# Altium integrated library TI Power Management Current Limited Switch.IntLib: 83 symbols (part 2 of 4)
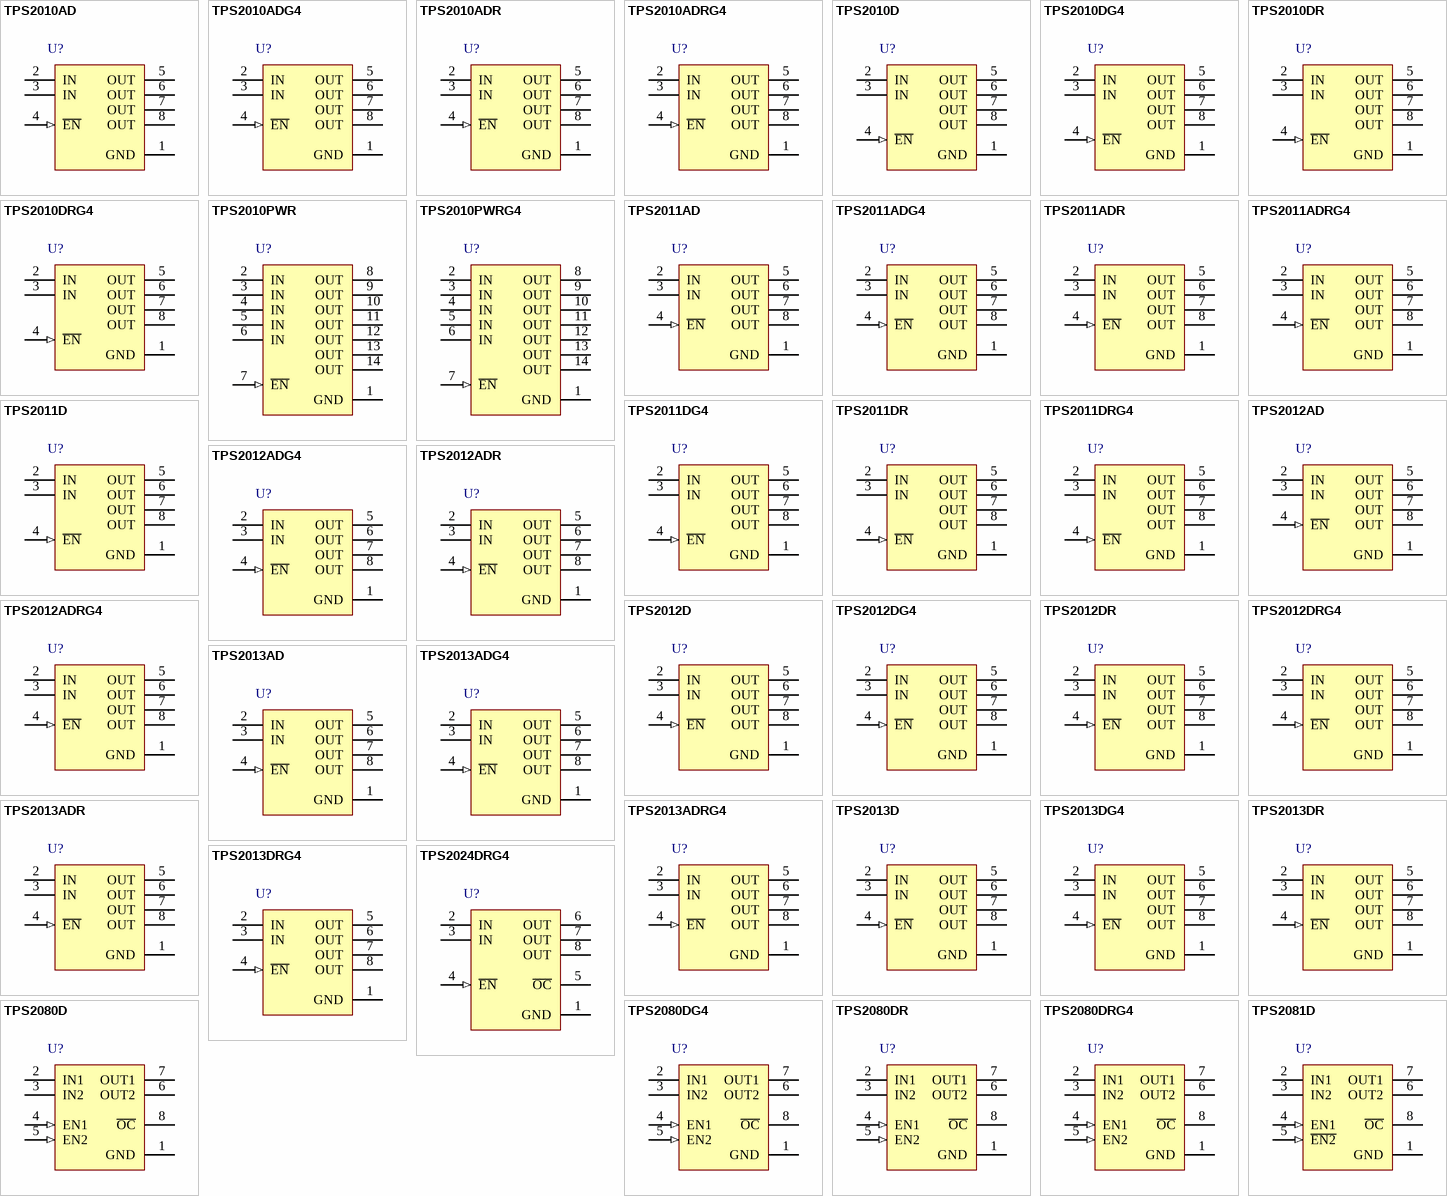
[diagram p3: symbols TPS2010AD to TPS2081D]

## TPS2013D
designator U?
2.6 A, 2.7 to 5.5 V Single High-Side MOSFET Switch IC, No Fault Reporting, 75 mOhms rDS(On), -40 to 125 degC, 8-pin SOIC (D), Green (RoHS & no Sb/Br); Manufacturer: Texas Instruments; PartNumber: TPS2013D; Adjustable Current Limit(Min)(A): 1.65; Enable/Shutdown: 1L; Iq(Typ)(uA): 73; No Fault Reporting: TRUE; Number of FETs: 1; rDS(on) per FET(Typ)(mOhms): 75; SubFamily: Current Limited Switch; Vin(Max)(V): 5.5; Vin(Min)(V): 2.7; DatasheetVersion: SLVS097A; PackageVersion: revM, Jun-2011; PackageReference: D8; PackageDescription: 8-Pin Plastic Small Outline Integrated Circuit, 4.9 x 3.9 mm, Pitch 1.27 mm Pitch; Supplier 1: Digi-Key; Supplier Part Number 1: 296-1353-5-ND; Supplier 2: Newark; Supplier Part Number 2: 52F2791; Supplier 3: Mouser; Supplier Part Number 3: 595-TPS2013D; Eco-Plan: Green (RoHS & no Sb/Br); Single: TRUE; Mounting Technology: Surface Mount; Code_JEDEC: MS-012AA; ComponentLink1Description: Datasheet; ComponentLink1URL: http://www.ti.com/general/docs/lit/getliterature.tsp?genericPartNumber=TPS2013&fileType=pdf
footprint D8_N (SOIC, 8-Leads, Body 4.9x3.9mm, Pitch 1.27mm, IPC Medium Density)
footprint D8_L (SOIC, 8-Leads, Body 4.9x3.9mm, Pitch 1.27mm, IPC High Density)
footprint D8_M (SOIC, 8-Leads, Body 4.9x3.9mm, Pitch 1.27mm, IPC Low Density)
pins: 1 GND (power) "Ground", 2 IN (power) "Input voltage", 3 IN (power) "Input voltage", 4 ~{EN} (in) "Enable input. Logic low turns power switch on", 5 OUT (power) "Power-switch output", 6 OUT (power) "Power-switch output", 7 OUT (power) "Power-switch output", 8 OUT (power) "Power-switch output"

## TPS2013DG4
designator U?
2.6 A, 2.7 to 5.5 V Single High-Side MOSFET Switch IC, No Fault Reporting, 75 mOhms rDS(On), -40 to 125 degC, 8-pin SOIC (D), Green (RoHS & no Sb/Br); Manufacturer: Texas Instruments; PartNumber: TPS2013DG4; Adjustable Current Limit(Min)(A): 1.65; Enable/Shutdown: 1L; Iq(Typ)(uA): 73; No Fault Reporting: TRUE; Number of FETs: 1; rDS(on) per FET(Typ)(mOhms): 75; SubFamily: Current Limited Switch; Vin(Max)(V): 5.5; Vin(Min)(V): 2.7; DatasheetVersion: SLVS097A; PackageVersion: revM, Jun-2011; PackageReference: D8; PackageDescription: 8-Pin Plastic Small Outline Integrated Circuit, 4.9 x 3.9 mm, Pitch 1.27 mm Pitch; Supplier 1: Digi-Key; Supplier Part Number 1: TPS2013DG4-ND; Supplier 2: Newark; Supplier Part Number 2: 61K1864; Supplier 3: Mouser; Supplier Part Number 3: 595-TPS2013DG4; Eco-Plan: Green (RoHS & no Sb/Br); Single: TRUE; Mounting Technology: Surface Mount; Code_JEDEC: MS-012AA; ComponentLink1Description: Datasheet; ComponentLink1URL: http://www.ti.com/general/docs/lit/getliterature.tsp?genericPartNumber=TPS2013&fileType=pdf
footprint D8_N (SOIC, 8-Leads, Body 4.9x3.9mm, Pitch 1.27mm, IPC Medium Density)
footprint D8_L (SOIC, 8-Leads, Body 4.9x3.9mm, Pitch 1.27mm, IPC High Density)
footprint D8_M (SOIC, 8-Leads, Body 4.9x3.9mm, Pitch 1.27mm, IPC Low Density)
pins: 1 GND (power) "Ground", 2 IN (power) "Input voltage", 3 IN (power) "Input voltage", 4 ~{EN} (in) "Enable input. Logic low turns power switch on", 5 OUT (power) "Power-switch output", 6 OUT (power) "Power-switch output", 7 OUT (power) "Power-switch output", 8 OUT (power) "Power-switch output"

## TPS2013DR
designator U?
2.6 A, 2.7 to 5.5 V Single High-Side MOSFET Switch IC, No Fault Reporting, 75 mOhms rDS(On), 8-pin SOIC (D), Green (RoHS & no Sb/Br); Manufacturer: Texas Instruments; PartNumber: TPS2013DR; Adjustable Current Limit(Min)(A): 1.65; Enable/Shutdown: 1L; Iq(Typ)(uA): 73; No Fault Reporting: TRUE; Number of FETs: 1; rDS(on) per FET(Typ)(mOhms): 75; SubFamily: Current Limited Switch; Vin(Max)(V): 5.5; Vin(Min)(V): 2.7; DatasheetVersion: SLVS097A; PackageVersion: revM, Jun-2011; PackageReference: D8; PackageDescription: 8-Pin Plastic Small Outline Integrated Circuit, 4.9 x 3.9 mm, Pitch 1.27 mm Pitch; Supplier 1: Digi-Key; Supplier Part Number 1: 296-1353-2-ND; Supplier 2: Digi-Key; Supplier Part Number 2: 296-1353-1-ND; Supplier 3: Digi-Key; Supplier Part Number 3: 296-1353-6-ND; Supplier 4: Newark; Supplier Part Number 4: 35C2208; Supplier 5: Mouser; Supplier Part Number 5: 595-TPS2013DR; Eco-Plan: Green (RoHS & no Sb/Br); Single: TRUE; Mounting Technology: Surface Mount; Code_JEDEC: MS-012AA; ComponentLink1Description: Datasheet; ComponentLink1URL: http://www.ti.com/general/docs/lit/getliterature.tsp?genericPartNumber=TPS2013&fileType=pdf
footprint D8_N (SOIC, 8-Leads, Body 4.9x3.9mm, Pitch 1.27mm, IPC Medium Density)
footprint D8_L (SOIC, 8-Leads, Body 4.9x3.9mm, Pitch 1.27mm, IPC High Density)
footprint D8_M (SOIC, 8-Leads, Body 4.9x3.9mm, Pitch 1.27mm, IPC Low Density)
pins: 1 GND (power) "Ground", 2 IN (power) "Input voltage", 3 IN (power) "Input voltage", 4 ~{EN} (in) "Enable input. Logic low turns power switch on", 5 OUT (power) "Power-switch output", 6 OUT (power) "Power-switch output", 7 OUT (power) "Power-switch output", 8 OUT (power) "Power-switch output"

## TPS2013DRG4
designator U?
2.6 A, 2.7 to 5.5 V Single High-Side MOSFET Switch IC, No Fault Reporting, 75 mOhms rDS(On), 8-pin SOIC (D), Green (RoHS & no Sb/Br); Manufacturer: Texas Instruments; PartNumber: TPS2013DRG4; Adjustable Current Limit(Min)(A): 1.65; Enable/Shutdown: 1L; Iq(Typ)(uA): 73; No Fault Reporting: TRUE; Number of FETs: 1; rDS(on) per FET(Typ)(mOhms): 75; SubFamily: Current Limited Switch; Vin(Max)(V): 5.5; Vin(Min)(V): 2.7; DatasheetVersion: SLVS097A; PackageVersion: revM, Jun-2011; PackageReference: D8; PackageDescription: 8-Pin Plastic Small Outline Integrated Circuit, 4.9 x 3.9 mm, Pitch 1.27 mm Pitch; Supplier 1: Digi-Key; Supplier Part Number 1: TPS2013DRG4-ND; Supplier 2: Newark; Supplier Part Number 2: 33K7507; Supplier 3: Mouser; Supplier Part Number 3: 595-TPS2013DRG4; Eco-Plan: Green (RoHS & no Sb/Br); Single: TRUE; Mounting Technology: Surface Mount; Code_JEDEC: MS-012AA; ComponentLink1Description: Datasheet; ComponentLink1URL: http://www.ti.com/general/docs/lit/getliterature.tsp?genericPartNumber=TPS2013&fileType=pdf
footprint D8_N (SOIC, 8-Leads, Body 4.9x3.9mm, Pitch 1.27mm, IPC Medium Density)
footprint D8_L (SOIC, 8-Leads, Body 4.9x3.9mm, Pitch 1.27mm, IPC High Density)
footprint D8_M (SOIC, 8-Leads, Body 4.9x3.9mm, Pitch 1.27mm, IPC Low Density)
pins: 1 GND (power) "Ground", 2 IN (power) "Input voltage", 3 IN (power) "Input voltage", 4 ~{EN} (in) "Enable input. Logic low turns power switch on", 5 OUT (power) "Power-switch output", 6 OUT (power) "Power-switch output", 7 OUT (power) "Power-switch output", 8 OUT (power) "Power-switch output"

## TPS2024DRG4
designator U?
2.2 A, 2.7 to 5.5 V Single Power Distribution Switch IC Hi-Side MOSFET, Fault Report, 33 mOhms rDS(On), -40 to 85 degC, 8-pin SOIC (D), Green (RoHS & no Sb/Br); Manufacturer: Texas Instruments; PartNumber: TPS2024DRG4; rDS(on) per FET(Typ)(mOhms): 33; SubFamily: Current Limited Switch; Vin(Max)(V): 5.5; Vin(Min)(V): 2.7; DatasheetVersion: SLVS175C; PackageVersion: revM, Jun-2011; PackageReference: D8; PackageDescription: 8-Pin Plastic Small Outline Integrated Circuit, 4.9 x 3.9 mm, Pitch 1.27 mm Pitch; Supplier 1: Digi-Key; Supplier Part Number 1: TPS2024DRG4-ND; Supplier 2: Newark; Supplier Part Number 2: 24K5807; Supplier 3: Mouser; Supplier Part Number 3: 595-TPS2024DRG4; Eco-Plan: Green (RoHS & no Sb/Br); Mounting Technology: Surface Mount; Code_JEDEC: MS-012AA; ComponentLink1Description: Datasheet; ComponentLink1URL: http://www.ti.com/general/docs/lit/getliterature.tsp?genericPartNumber=TPS2024&fileType=pdf
footprint D8_N (SOIC, 8-Leads, Body 4.9x3.9mm, Pitch 1.27mm, IPC Medium Density)
footprint D8_L (SOIC, 8-Leads, Body 4.9x3.9mm, Pitch 1.27mm, IPC High Density)
footprint D8_M (SOIC, 8-Leads, Body 4.9x3.9mm, Pitch 1.27mm, IPC Low Density)
pins: 1 GND (power) "Ground", 2 IN (power) "Input voltage", 3 IN (power) "Input voltage", 4 ~{EN} (in) "Enable input. Logic-low turns on power switch.", 5 ~{OC} (oc) "Overcurrent. Logic output, active-low", 6 OUT (power) "Power-switch output", 7 OUT (power) "Power-switch output", 8 OUT (power) "Power-switch output"

## TPS2080D
designator U?
0.7 A, 2.7 to 5.5 V Dual (2 Input / 2 Output) High-Side MOSFET Switch IC, Fault Reporting, 2 Act-Hi En, 80 mOhms rDS(on), 0 to 85 degC, 8-pin SOIC (D), Green (RoHS & no Sb/Br); Manufacturer: Texas Instruments; PartNumber: TPS2080D; Adjustable Current Limit(Min)(A): 0.7; Dual 2-Input, 2-Output": TRUE; Enable/Shutdown: 2H; Iq(Typ)(uA): 85; Number of FETs: 2; rDS(on) per FET(Typ)(mOhms): 80; SubFamily: Current Limited Switch; Vin(Max)(V): 5.5; Vin(Min)(V): 2.7; DatasheetVersion: SLVS202B; PackageVersion: revM, Jun-2011; PackageReference: D8; PackageDescription: 8-Pin Plastic Small Outline Integrated Circuit, 4.9 x 3.9 mm, Pitch 1.27 mm Pitch; Supplier 1: Digi-Key; Supplier Part Number 1: 296-3431-5-ND; Supplier 2: Newark; Supplier Part Number 2: 77C0040; Supplier 3: Mouser; Supplier Part Number 3: 595-TPS2080D; Eco-Plan: Green (RoHS & no Sb/Br); Over Current Reporting: TRUE; Over Temp Reporting: TRUE; Mounting Technology: Surface Mount; Code_JEDEC: MS-012AA; ComponentLink1Description: Datasheet; ComponentLink1URL: http://www.ti.com/general/docs/lit/getliterature.tsp?genericPartNumber=TPS2080&fileType=pdf
footprint D8_N (SOIC, 8-Leads, Body 4.9x3.9mm, Pitch 1.27mm, IPC Medium Density)
footprint D8_L (SOIC, 8-Leads, Body 4.9x3.9mm, Pitch 1.27mm, IPC High Density)
footprint D8_M (SOIC, 8-Leads, Body 4.9x3.9mm, Pitch 1.27mm, IPC Low Density)
pins: 1 GND (power) "Ground", 2 IN1 (power) "N-Channel MOSFET Drain", 3 IN2 (power) "N-Channel MOSFET Drain", 4 EN1 (in) "Enable input. Active high turns on power switch.", 5 EN2 (in) "Enable input. Active high turns on power switch.", 6 OUT2 (power) "Power-switch output", 7 OUT1 (power) "Power-switch output", 8 ~{OC} (oc) "Overcurrent. Open drain output active low"

## TPS2080DG4
designator U?
0.7 A, 2.7 to 5.5 V Dual (2 Input / 2 Output) High-Side MOSFET Switch IC, Fault Reporting, 2 Act-Hi En, 80 mOhms rDS(on), 0 to 85 degC, 8-pin SOIC (D), Green (RoHS & no Sb/Br); Manufacturer: Texas Instruments; PartNumber: TPS2080DG4; Adjustable Current Limit(Min)(A): 0.7; Dual 2-Input, 2-Output": TRUE; Enable/Shutdown: 2H; Iq(Typ)(uA): 85; Number of FETs: 2; rDS(on) per FET(Typ)(mOhms): 80; SubFamily: Current Limited Switch; Vin(Max)(V): 5.5; Vin(Min)(V): 2.7; DatasheetVersion: SLVS202B; PackageVersion: revM, Jun-2011; PackageReference: D8; PackageDescription: 8-Pin Plastic Small Outline Integrated Circuit, 4.9 x 3.9 mm, Pitch 1.27 mm Pitch; Supplier 1: Digi-Key; Supplier Part Number 1: TPS2080DG4-ND; Supplier 2: Newark; Supplier Part Number 2: 73K9587; Supplier 3: Mouser; Supplier Part Number 3: 595-TPS2080DG4; Eco-Plan: Green (RoHS & no Sb/Br); Over Current Reporting: TRUE; Over Temp Reporting: TRUE; Mounting Technology: Surface Mount; Code_JEDEC: MS-012AA; ComponentLink1Description: Datasheet; ComponentLink1URL: http://www.ti.com/general/docs/lit/getliterature.tsp?genericPartNumber=TPS2080&fileType=pdf
footprint D8_N (SOIC, 8-Leads, Body 4.9x3.9mm, Pitch 1.27mm, IPC Medium Density)
footprint D8_L (SOIC, 8-Leads, Body 4.9x3.9mm, Pitch 1.27mm, IPC High Density)
footprint D8_M (SOIC, 8-Leads, Body 4.9x3.9mm, Pitch 1.27mm, IPC Low Density)
pins: 1 GND (power) "Ground", 2 IN1 (power) "N-Channel MOSFET Drain", 3 IN2 (power) "N-Channel MOSFET Drain", 4 EN1 (in) "Enable input. Active high turns on power switch.", 5 EN2 (in) "Enable input. Active high turns on power switch.", 6 OUT2 (power) "Power-switch output", 7 OUT1 (power) "Power-switch output", 8 ~{OC} (oc) "Overcurrent. Open drain output active low"

## TPS2080DR
designator U?
0.7 A, 2.7 to 5.5 V Dual (2 Input / 2 Output) High-Side MOSFET Switch IC, Fault Reporting, 2 Act-Hi En, 80 mOhms rDS(on), 0 to 85 degC, 8-pin SOIC (D), Green (RoHS & no Sb/Br); Manufacturer: Texas Instruments; PartNumber: TPS2080DR; Adjustable Current Limit(Min)(A): 0.7; Dual 2-Input, 2-Output": TRUE; Enable/Shutdown: 2H; Iq(Typ)(uA): 85; Number of FETs: 2; rDS(on) per FET(Typ)(mOhms): 80; SubFamily: Current Limited Switch; Vin(Max)(V): 5.5; Vin(Min)(V): 2.7; DatasheetVersion: SLVS202B; PackageVersion: revM, Jun-2011; PackageReference: D8; PackageDescription: 8-Pin Plastic Small Outline Integrated Circuit, 4.9 x 3.9 mm, Pitch 1.27 mm Pitch; Supplier 1: Digi-Key; Supplier Part Number 1: TPS2080DR-ND; Supplier 2: Newark; Supplier Part Number 2: 77C0041; Supplier 3: Mouser; Supplier Part Number 3: 595-TPS2080DR; Eco-Plan: Green (RoHS & no Sb/Br); Over Current Reporting: TRUE; Over Temp Reporting: TRUE; Mounting Technology: Surface Mount; Code_JEDEC: MS-012AA; ComponentLink1Description: Datasheet; ComponentLink1URL: http://www.ti.com/general/docs/lit/getliterature.tsp?genericPartNumber=TPS2080&fileType=pdf
footprint D8_N (SOIC, 8-Leads, Body 4.9x3.9mm, Pitch 1.27mm, IPC Medium Density)
footprint D8_L (SOIC, 8-Leads, Body 4.9x3.9mm, Pitch 1.27mm, IPC High Density)
footprint D8_M (SOIC, 8-Leads, Body 4.9x3.9mm, Pitch 1.27mm, IPC Low Density)
pins: 1 GND (power) "Ground", 2 IN1 (power) "N-Channel MOSFET Drain", 3 IN2 (power) "N-Channel MOSFET Drain", 4 EN1 (in) "Enable input. Active high turns on power switch.", 5 EN2 (in) "Enable input. Active high turns on power switch.", 6 OUT2 (power) "Power-switch output", 7 OUT1 (power) "Power-switch output", 8 ~{OC} (oc) "Overcurrent. Open drain output active low"

## TPS2080DRG4
designator U?
0.7 A, 2.7 to 5.5 V Dual (2 Input / 2 Output) High-Side MOSFET Switch IC, Fault Reporting, 2 Act-Hi En, 80 mOhms rDS(on), 0 to 85 degC, 8-pin SOIC (D), Green (RoHS & no Sb/Br); Manufacturer: Texas Instruments; PartNumber: TPS2080DRG4; Adjustable Current Limit(Min)(A): 0.7; Dual 2-Input, 2-Output": TRUE; Enable/Shutdown: 2H; Iq(Typ)(uA): 85; Number of FETs: 2; rDS(on) per FET(Typ)(mOhms): 80; SubFamily: Current Limited Switch; Vin(Max)(V): 5.5; Vin(Min)(V): 2.7; DatasheetVersion: SLVS202B; PackageVersion: revM, Jun-2011; PackageReference: D8; PackageDescription: 8-Pin Plastic Small Outline Integrated Circuit, 4.9 x 3.9 mm, Pitch 1.27 mm Pitch; Supplier 1: Digi-Key; Supplier Part Number 1: TPS2080DRG4-ND; Supplier 2: Newark; Supplier Part Number 2: 33K7547; Supplier 3: Mouser; Supplier Part Number 3: 595-TPS2080DRG4; Eco-Plan: Green (RoHS & no Sb/Br); Over Current Reporting: TRUE; Over Temp Reporting: TRUE; Mounting Technology: Surface Mount; Code_JEDEC: MS-012AA; ComponentLink1Description: Datasheet; ComponentLink1URL: http://www.ti.com/general/docs/lit/getliterature.tsp?genericPartNumber=TPS2080&fileType=pdf
footprint D8_N (SOIC, 8-Leads, Body 4.9x3.9mm, Pitch 1.27mm, IPC Medium Density)
footprint D8_L (SOIC, 8-Leads, Body 4.9x3.9mm, Pitch 1.27mm, IPC High Density)
footprint D8_M (SOIC, 8-Leads, Body 4.9x3.9mm, Pitch 1.27mm, IPC Low Density)
pins: 1 GND (power) "Ground", 2 IN1 (power) "N-Channel MOSFET Drain", 3 IN2 (power) "N-Channel MOSFET Drain", 4 EN1 (in) "Enable input. Active high turns on power switch.", 5 EN2 (in) "Enable input. Active high turns on power switch.", 6 OUT2 (power) "Power-switch output", 7 OUT1 (power) "Power-switch output", 8 ~{OC} (oc) "Overcurrent. Open drain output active low"

## TPS2081D
designator U?
0.7 A, 2.7 to 5.5 V Dual (2 In / 2 Out) High-Side MOSFET Switch IC, Fault Report, 1 Act-High, 1 Act-Low, 80 mOhms rDS(On), 0 to 85 degC, 8-pin SOIC (D), Green (RoHS & no Sb/Br); Manufacturer: Texas Instruments; PartNumber: TPS2081D; Adjustable Current Limit(Min)(A): 0.7; Dual 2-Input, 2-Output": TRUE; Enable/Shutdown: 1L, 1H; Iq(Typ)(uA): 85; Number of FETs: 2; rDS(on) per FET(Typ)(mOhms): 80; SubFamily: Current Limited Switch; Vin(Max)(V): 5.5; Vin(Min)(V): 2.7; DatasheetVersion: SLVS202B; PackageVersion: revM, Jun-2011; PackageReference: D8; PackageDescription: 8-Pin Plastic Small Outline Integrated Circuit, 4.9 x 3.9 mm, Pitch 1.27 mm Pitch; Supplier 1: Digi-Key; Supplier Part Number 1: 296-3432-5-ND; Supplier 2: Newark; Supplier Part Number 2: 77C0043; Supplier 3: Mouser; Supplier Part Number 3: 595-TPS2081D; Eco-Plan: Green (RoHS & no Sb/Br); Over Current Reporting: TRUE; Over Temp Reporting: TRUE; Mounting Technology: Surface Mount; Code_JEDEC: MS-012AA; ComponentLink1Description: Datasheet; ComponentLink1URL: http://www.ti.com/general/docs/lit/getliterature.tsp?genericPartNumber=TPS2081&fileType=pdf
footprint D8_N (SOIC, 8-Leads, Body 4.9x3.9mm, Pitch 1.27mm, IPC Medium Density)
footprint D8_L (SOIC, 8-Leads, Body 4.9x3.9mm, Pitch 1.27mm, IPC High Density)
footprint D8_M (SOIC, 8-Leads, Body 4.9x3.9mm, Pitch 1.27mm, IPC Low Density)
pins: 1 GND (power) "Ground", 2 IN1 (power) "N-Channel MOSFET Drain", 3 IN2 (power) "N-Channel MOSFET Drain", 4 EN1 (in) "Enable input. Active high turns on power switch.", 5 ~{EN2} (in) "Enable input. Active low turns on power switch.", 6 OUT2 (power) "Power-switch output", 7 OUT1 (power) "Power-switch output", 8 ~{OC} (oc) "Overcurrent. Open drain output active low"

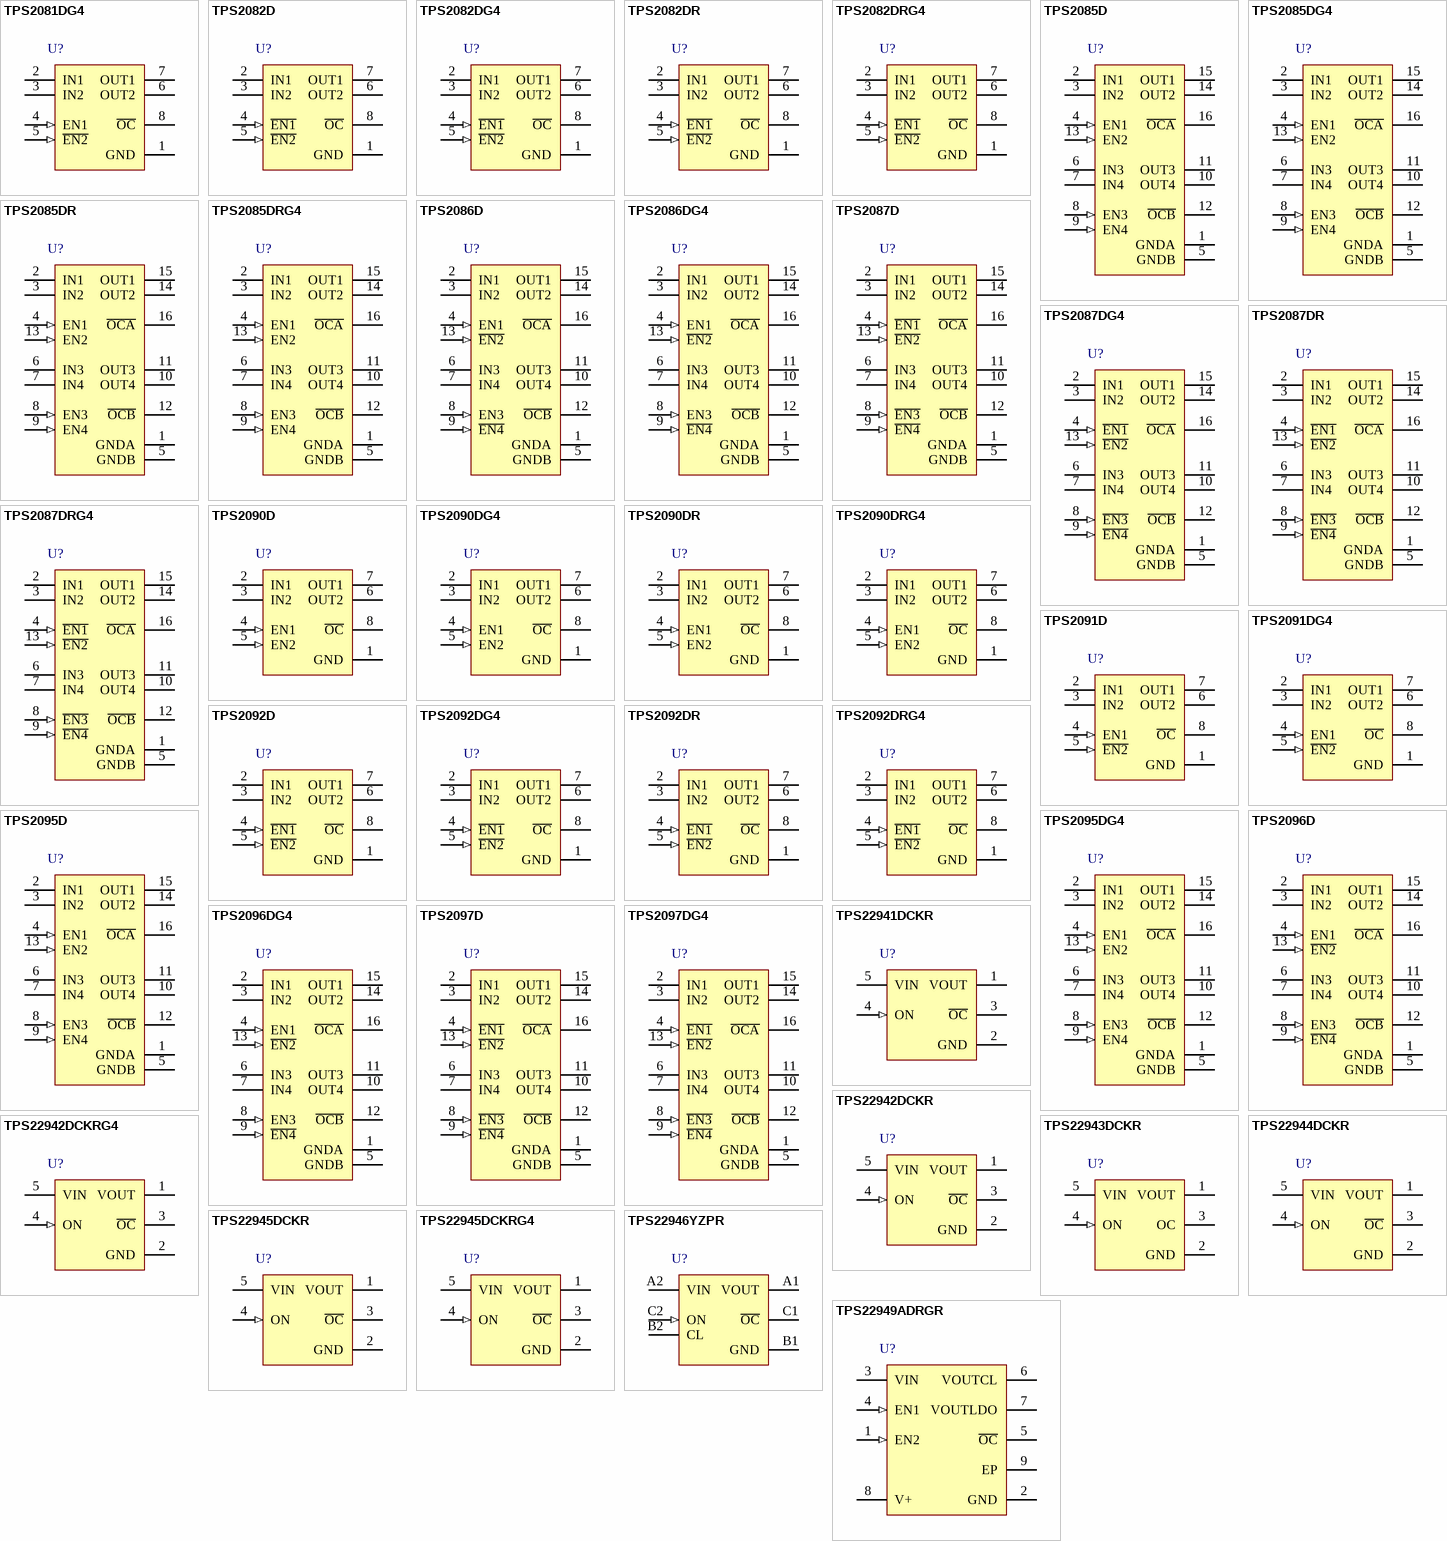
[diagram p1: symbols TPS2081DG4 to TPS22949ADRGR]

## TPS2081DG4
designator U?
0.7 A, 2.7 to 5.5 V Dual (2 In / 2 Out) High-Side MOSFET Switch IC, Fault Report, 1 Act-High, 1 Act-Low, 80 mOhms rDS(On), 0 to 85 degC, 8-pin SOIC (D), Green (RoHS & no Sb/Br); Manufacturer: Texas Instruments; PartNumber: TPS2081DG4; Adjustable Current Limit(Min)(A): 0.7; Dual 2-Input, 2-Output": TRUE; Enable/Shutdown: 1L, 1H; Iq(Typ)(uA): 85; Number of FETs: 2; rDS(on) per FET(Typ)(mOhms): 80; SubFamily: Current Limited Switch; Vin(Max)(V): 5.5; Vin(Min)(V): 2.7; DatasheetVersion: SLVS202B; PackageVersion: revM, Jun-2011; PackageReference: D8; PackageDescription: 8-Pin Plastic Small Outline Integrated Circuit, 4.9 x 3.9 mm, Pitch 1.27 mm Pitch; Supplier 1: Digi-Key; Supplier Part Number 1: TPS2081DG4-ND; Supplier 2: Newark; Supplier Part Number 2: 34M0142; Supplier 3: Mouser; Supplier Part Number 3: 595-TPS2081DG4; Eco-Plan: Green (RoHS & no Sb/Br); Over Current Reporting: TRUE; Over Temp Reporting: TRUE; Mounting Technology: Surface Mount; Code_JEDEC: MS-012AA; ComponentLink1Description: Datasheet; ComponentLink1URL: http://www.ti.com/general/docs/lit/getliterature.tsp?genericPartNumber=TPS2081&fileType=pdf
footprint D8_N (SOIC, 8-Leads, Body 4.9x3.9mm, Pitch 1.27mm, IPC Medium Density)
footprint D8_L (SOIC, 8-Leads, Body 4.9x3.9mm, Pitch 1.27mm, IPC High Density)
footprint D8_M (SOIC, 8-Leads, Body 4.9x3.9mm, Pitch 1.27mm, IPC Low Density)
pins: 1 GND (power) "Ground", 2 IN1 (power) "N-Channel MOSFET Drain", 3 IN2 (power) "N-Channel MOSFET Drain", 4 EN1 (in) "Enable input. Active high turns on power switch.", 5 ~{EN2} (in) "Enable input. Active low turns on power switch.", 6 OUT2 (power) "Power-switch output", 7 OUT1 (power) "Power-switch output", 8 ~{OC} (oc) "Overcurrent. Open drain output active low"

## TPS2082D
designator U?
0.7 A, 2.7 to 5.5 V Dual (2 Input / 2 Output) High-Side MOSFET Switch IC, Fault Reporting, 80 mOhms rDS(On), 0 to 85 degC, 8-pin SOIC (D), Green (RoHS & no Sb/Br); Manufacturer: Texas Instruments; PartNumber: TPS2082D; Adjustable Current Limit(Min)(A): 0.7; Dual 2-Input, 2-Output": TRUE; Enable/Shutdown: 2L; Iq(Typ)(uA): 85; Number of FETs: 2; rDS(on) per FET(Typ)(mOhms): 80; SubFamily: Current Limited Switch; Vin(Max)(V): 5.5; Vin(Min)(V): 2.7; DatasheetVersion: SLVS202B; PackageVersion: revM, Jun-2011; PackageReference: D8; PackageDescription: 8-Pin Plastic Small Outline Integrated Circuit, 4.9 x 3.9 mm, Pitch 1.27 mm Pitch; Supplier 1: Digi-Key; Supplier Part Number 1: 296-3433-5-ND; Supplier 2: Newark; Supplier Part Number 2: 77C0045; Supplier 3: Mouser; Supplier Part Number 3: 595-TPS2082D; Eco-Plan: Green (RoHS & no Sb/Br); Over Current Reporting: TRUE; Over Temp Reporting: TRUE; Mounting Technology: Surface Mount; Code_JEDEC: MS-012AA; ComponentLink1Description: Datasheet; ComponentLink1URL: http://www.ti.com/general/docs/lit/getliterature.tsp?genericPartNumber=TPS2082&fileType=pdf
footprint D8_N (SOIC, 8-Leads, Body 4.9x3.9mm, Pitch 1.27mm, IPC Medium Density)
footprint D8_L (SOIC, 8-Leads, Body 4.9x3.9mm, Pitch 1.27mm, IPC High Density)
footprint D8_M (SOIC, 8-Leads, Body 4.9x3.9mm, Pitch 1.27mm, IPC Low Density)
pins: 1 GND (power) "Ground", 2 IN1 (power) "N-Channel MOSFET Drain", 3 IN2 (power) "N-Channel MOSFET Drain", 4 ~{EN1} (in) "Enable input. Active low turns on power switch.", 5 ~{EN2} (in) "Enable input. Active low turns on power switch.", 6 OUT2 (power) "Power-switch output", 7 OUT1 (power) "Power-switch output", 8 ~{OC} (oc) "Overcurrent. Open drain output active low"

## TPS2082DG4
designator U?
0.7 A, 2.7 to 5.5 V Dual (2 Input / 2 Output) High-Side MOSFET Switch IC, Fault Reporting, 80 mOhms rDS(On), 0 to 85 degC, 8-pin SOIC (D), Green (RoHS & no Sb/Br); Manufacturer: Texas Instruments; PartNumber: TPS2082DG4; Adjustable Current Limit(Min)(A): 0.7; Dual 2-Input, 2-Output": TRUE; Enable/Shutdown: 2L; Iq(Typ)(uA): 85; Number of FETs: 2; rDS(on) per FET(Typ)(mOhms): 80; SubFamily: Current Limited Switch; Vin(Max)(V): 5.5; Vin(Min)(V): 2.7; DatasheetVersion: SLVS202B; PackageVersion: revM, Jun-2011; PackageReference: D8; PackageDescription: 8-Pin Plastic Small Outline Integrated Circuit, 4.9 x 3.9 mm, Pitch 1.27 mm Pitch; Supplier 1: Digi-Key; Supplier Part Number 1: TPS2082DG4-ND; Supplier 2: Newark; Supplier Part Number 2: 73K9588; Supplier 3: Mouser; Supplier Part Number 3: 595-TPS2082DG4; Eco-Plan: Green (RoHS & no Sb/Br); Over Current Reporting: TRUE; Over Temp Reporting: TRUE; Mounting Technology: Surface Mount; Code_JEDEC: MS-012AA; ComponentLink1Description: Datasheet; ComponentLink1URL: http://www.ti.com/general/docs/lit/getliterature.tsp?genericPartNumber=TPS2082&fileType=pdf
footprint D8_N (SOIC, 8-Leads, Body 4.9x3.9mm, Pitch 1.27mm, IPC Medium Density)
footprint D8_L (SOIC, 8-Leads, Body 4.9x3.9mm, Pitch 1.27mm, IPC High Density)
footprint D8_M (SOIC, 8-Leads, Body 4.9x3.9mm, Pitch 1.27mm, IPC Low Density)
pins: 1 GND (power) "Ground", 2 IN1 (power) "N-Channel MOSFET Drain", 3 IN2 (power) "N-Channel MOSFET Drain", 4 ~{EN1} (in) "Enable input. Active low turns on power switch.", 5 ~{EN2} (in) "Enable input. Active low turns on power switch.", 6 OUT2 (power) "Power-switch output", 7 OUT1 (power) "Power-switch output", 8 ~{OC} (oc) "Overcurrent. Open drain output active low"

## TPS2082DR
designator U?
0.7 A, 2.7 to 5.5 V Dual (2 Input / 2 Output) High-Side MOSFET Switch IC, Fault Reporting, 2 Act-Lo En, 80 mOhms rDS(On), 0 to 85 degC, 8-pin SOIC (D), Green (RoHS & no Sb/Br); Manufacturer: Texas Instruments; PartNumber: TPS2082DR; Adjustable Current Limit(Min)(A): 0.7; Dual 2-Input, 2-Output": TRUE; Enable/Shutdown: 2L; Iq(Typ)(uA): 85; Number of FETs: 2; rDS(on) per FET(Typ)(mOhms): 80; SubFamily: Current Limited Switch; Vin(Max)(V): 5.5; Vin(Min)(V): 2.7; DatasheetVersion: SLVS202B; PackageVersion: revM, Jun-2011; PackageReference: D8; PackageDescription: 8-Pin Plastic Small Outline Integrated Circuit, 4.9 x 3.9 mm, Pitch 1.27 mm Pitch; Supplier 1: Digi-Key; Supplier Part Number 1: TPS2082DR-ND; Supplier 2: Newark; Supplier Part Number 2: 77C0046; Supplier 3: Mouser; Supplier Part Number 3: 595-TPS2082DR; Eco-Plan: Green (RoHS & no Sb/Br); Over Current Reporting: TRUE; Over Temp Reporting: TRUE; Mounting Technology: Surface Mount; Code_JEDEC: MS-012AA; ComponentLink1Description: Datasheet; ComponentLink1URL: http://www.ti.com/general/docs/lit/getliterature.tsp?genericPartNumber=TPS2082&fileType=pdf
footprint D8_N (SOIC, 8-Leads, Body 4.9x3.9mm, Pitch 1.27mm, IPC Medium Density)
footprint D8_L (SOIC, 8-Leads, Body 4.9x3.9mm, Pitch 1.27mm, IPC High Density)
footprint D8_M (SOIC, 8-Leads, Body 4.9x3.9mm, Pitch 1.27mm, IPC Low Density)
pins: 1 GND (power) "Ground", 2 IN1 (power) "N-Channel MOSFET Drain", 3 IN2 (power) "N-Channel MOSFET Drain", 4 ~{EN1} (in) "Enable input. Active low turns on power switch.", 5 ~{EN2} (in) "Enable input. Active low turns on power switch.", 6 OUT2 (power) "Power-switch output", 7 OUT1 (power) "Power-switch output", 8 ~{OC} (oc) "Overcurrent. Open drain output active low"

## TPS2082DRG4
designator U?
0.7 A, 2.7 to 5.5 V Dual (2 Input / 2 Output) High-Side MOSFET Switch IC, Fault Reporting, 2 Act-Lo En, 80 mOhms rDS(On), 0 to 85 degC, 8-pin SOIC (D), Green (RoHS & no Sb/Br); Manufacturer: Texas Instruments; PartNumber: TPS2082DRG4; Adjustable Current Limit(Min)(A): 0.7; Dual 2-Input, 2-Output": TRUE; Enable/Shutdown: 2L; Iq(Typ)(uA): 85; Number of FETs: 2; rDS(on) per FET(Typ)(mOhms): 80; SubFamily: Current Limited Switch; Vin(Max)(V): 5.5; Vin(Min)(V): 2.7; DatasheetVersion: SLVS202B; PackageVersion: revM, Jun-2011; PackageReference: D8; PackageDescription: 8-Pin Plastic Small Outline Integrated Circuit, 4.9 x 3.9 mm, Pitch 1.27 mm Pitch; Supplier 1: Digi-Key; Supplier Part Number 1: TPS2082DRG4-ND; Supplier 2: Newark; Supplier Part Number 2: 33K7549; Supplier 3: Mouser; Supplier Part Number 3: 595-TPS2082DRG4; Eco-Plan: Green (RoHS & no Sb/Br); Over Current Reporting: TRUE; Over Temp Reporting: TRUE; Mounting Technology: Surface Mount; Code_JEDEC: MS-012AA; ComponentLink1Description: Datasheet; ComponentLink1URL: http://www.ti.com/general/docs/lit/getliterature.tsp?genericPartNumber=TPS2082&fileType=pdf
footprint D8_N (SOIC, 8-Leads, Body 4.9x3.9mm, Pitch 1.27mm, IPC Medium Density)
footprint D8_L (SOIC, 8-Leads, Body 4.9x3.9mm, Pitch 1.27mm, IPC High Density)
footprint D8_M (SOIC, 8-Leads, Body 4.9x3.9mm, Pitch 1.27mm, IPC Low Density)
pins: 1 GND (power) "Ground", 2 IN1 (power) "N-Channel MOSFET Drain", 3 IN2 (power) "N-Channel MOSFET Drain", 4 ~{EN1} (in) "Enable input. Active low turns on power switch.", 5 ~{EN2} (in) "Enable input. Active low turns on power switch.", 6 OUT2 (power) "Power-switch output", 7 OUT1 (power) "Power-switch output", 8 ~{OC} (oc) "Overcurrent. Open drain output active low"

## TPS2085D
designator U?
0.7 A, 2.7 to 5.5 V Quad (4 Input / 4 Output) High-Side MOSFET Switch IC, Fault Reporting, 4 Act-Hi En, 80 mOhms rDS(On), 0 to 85 degC, 16-pin SOIC (D), Green (RoHS & no Sb/Br); Manufacturer: Texas Instruments; PartNumber: TPS2085D; Adjustable Current Limit(Min)(A): 0.7; Enable/Shutdown: 4H; Iq(Typ)(uA): 85; Number of FETs: 4; Over Current Reporting: TRUE; rDS(on) per FET(Typ)(mOhms): 80; SubFamily: Current Limited Switch; Vin(Max)(V): 5.5; Vin(Min)(V): 2.7; DatasheetVersion: SLVS202B; PackageVersion: revM, Jun-2011; PackageReference: D16; PackageDescription: 16-Pin Plastic Small Outline Integrated Circuit, 9.9 x 3.9 mm, Pitch 1.27 mm Pitch; Supplier 1: Digi-Key; Supplier Part Number 1: 296-3434-5-ND; Supplier 2: Newark; Supplier Part Number 2: 77C0047; Supplier 3: Mouser; Supplier Part Number 3: 595-TPS2085D; Eco-Plan: Green (RoHS & no Sb/Br); Over Temp Reporting: TRUE; Quad 4-Input, 4-Output: TRUE; Mounting Technology: Surface Mount; Code_JEDEC: MS-012AC; ComponentLink1Description: Datasheet; ComponentLink1URL: http://www.ti.com/general/docs/lit/getliterature.tsp?genericPartNumber=TPS2085&fileType=pdf
footprint D16_N (SOIC, 16-Leads, Body 9.9x3.9mm, Pitch 1.27mm, IPC Medium Density)
footprint D16_L (SOIC, 16-Leads, Body 9.9x3.9mm, Pitch 1.27mm, IPC High Density)
footprint D16_M (SOIC, 16-Leads, Body 9.9x3.9mm, Pitch 1.27mm, IPC Low Density)
pins: 1 GNDA (power) "Ground for IN1 and IN2 switch and circuitry", 2 IN1 (power) "N-channel MOSFET drain", 3 IN2 (power) "N-channel MOSFET drain", 4 EN1 (in) "Enable input. Active high turns on power switch.", 5 GNDB (power) "Ground for IN3 and IN4 switch and circuitry", 6 IN3 (power) "N-channel MOSFET drain", 7 IN4 (power) "N-channel MOSFET drain", 8 EN3 (in) "Enable input. Active high turns on power switch.", 9 EN4 (in) "Enable input. Active high turns on power switch.", 10 OUT4 (power) "Power-switch output", 11 OUT3 (power) "Power-switch output", 12 ~{OCB} (oc) "Overcurrent indicator for switch 3 and switch 4. Active low open drain output", 13 EN2 (in) "Enable input. Active high turns on power switch.", 14 OUT2 (power) "Power-switch output", 15 OUT1 (power) "Power-switch output", 16 ~{OCA} (oc) "Overcurrent indicator for switch 1 and switch 2. Active-low open drain output."

## TPS2085DG4
designator U?
0.7 A, 2.7 to 5.5 V Quad (4 Input / 4 Output) High-Side MOSFET Switch IC, Fault Reporting, 4 Act-Hi En, 80 mOhms rDS(On), 0 to 85 degC, 16-pin SOIC (D), Green (RoHS & no Sb/Br); Manufacturer: Texas Instruments; PartNumber: TPS2085DG4; Adjustable Current Limit(Min)(A): 0.7; Enable/Shutdown: 4H; Iq(Typ)(uA): 85; Number of FETs: 4; Over Current Reporting: TRUE; rDS(on) per FET(Typ)(mOhms): 80; SubFamily: Current Limited Switch; Vin(Max)(V): 5.5; Vin(Min)(V): 2.7; DatasheetVersion: SLVS202B; PackageVersion: revM, Jun-2011; PackageReference: D16; PackageDescription: 16-Pin Plastic Small Outline Integrated Circuit, 9.9 x 3.9 mm, Pitch 1.27 mm Pitch; Supplier 1: Digi-Key; Supplier Part Number 1: TPS2085DG4-ND; Supplier 2: Newark; Supplier Part Number 2: 70K5699; Supplier 3: Mouser; Supplier Part Number 3: 595-TPS2085DG4; Eco-Plan: Green (RoHS & no Sb/Br); Over Temp Reporting: TRUE; Quad 4-Input, 4-Output: TRUE; Mounting Technology: Surface Mount; Code_JEDEC: MS-012AC; ComponentLink1Description: Datasheet; ComponentLink1URL: http://www.ti.com/general/docs/lit/getliterature.tsp?genericPartNumber=TPS2085&fileType=pdf
footprint D16_N (SOIC, 16-Leads, Body 9.9x3.9mm, Pitch 1.27mm, IPC Medium Density)
footprint D16_L (SOIC, 16-Leads, Body 9.9x3.9mm, Pitch 1.27mm, IPC High Density)
footprint D16_M (SOIC, 16-Leads, Body 9.9x3.9mm, Pitch 1.27mm, IPC Low Density)
pins: 1 GNDA (power) "Ground for IN1 and IN2 switch and circuitry", 2 IN1 (power) "N-channel MOSFET drain", 3 IN2 (power) "N-channel MOSFET drain", 4 EN1 (in) "Enable input. Active high turns on power switch.", 5 GNDB (power) "Ground for IN3 and IN4 switch and circuitry", 6 IN3 (power) "N-channel MOSFET drain", 7 IN4 (power) "N-channel MOSFET drain", 8 EN3 (in) "Enable input. Active high turns on power switch.", 9 EN4 (in) "Enable input. Active high turns on power switch.", 10 OUT4 (power) "Power-switch output", 11 OUT3 (power) "Power-switch output", 12 ~{OCB} (oc) "Overcurrent indicator for switch 3 and switch 4. Active low open drain output", 13 EN2 (in) "Enable input. Active high turns on power switch.", 14 OUT2 (power) "Power-switch output", 15 OUT1 (power) "Power-switch output", 16 ~{OCA} (oc) "Overcurrent indicator for switch 1 and switch 2. Active-low open drain output."

## TPS2085DR
designator U?
0.7 A, 2.7 to 5.5 V Quad (4 Input / 4 Output) High-Side MOSFET Switch IC, Fault Reporting, 4 Act-Hi En, 80 mOhms rDS(On), 0 to 85 degC, 16-pin SOIC (D), Green (RoHS & no Sb/Br); Manufacturer: Texas Instruments; PartNumber: TPS2085DR; Adjustable Current Limit(Min)(A): 0.7; Enable/Shutdown: 4H; Iq(Typ)(uA): 85; Number of FETs: 4; Over Current Reporting: TRUE; rDS(on) per FET(Typ)(mOhms): 80; SubFamily: Current Limited Switch; Vin(Max)(V): 5.5; Vin(Min)(V): 2.7; DatasheetVersion: SLVS202B; PackageVersion: revM, Jun-2011; PackageReference: D16; PackageDescription: 16-Pin Plastic Small Outline Integrated Circuit, 9.9 x 3.9 mm, Pitch 1.27 mm Pitch; Supplier 1: Digi-Key; Supplier Part Number 1: TPS2085DR-ND; Supplier 2: Newark; Supplier Part Number 2: 77C0048; Supplier 3: Mouser; Supplier Part Number 3: 595-TPS2085DR; Eco-Plan: Green (RoHS & no Sb/Br); Over Temp Reporting: TRUE; Quad 4-Input, 4-Output: TRUE; Mounting Technology: Surface Mount; Code_JEDEC: MS-012AC; ComponentLink1Description: Datasheet; ComponentLink1URL: http://www.ti.com/general/docs/lit/getliterature.tsp?genericPartNumber=TPS2085&fileType=pdf
footprint D16_N (SOIC, 16-Leads, Body 9.9x3.9mm, Pitch 1.27mm, IPC Medium Density)
footprint D16_L (SOIC, 16-Leads, Body 9.9x3.9mm, Pitch 1.27mm, IPC High Density)
footprint D16_M (SOIC, 16-Leads, Body 9.9x3.9mm, Pitch 1.27mm, IPC Low Density)
pins: 1 GNDA (power) "Ground for IN1 and IN2 switch and circuitry", 2 IN1 (power) "N-channel MOSFET drain", 3 IN2 (power) "N-channel MOSFET drain", 4 EN1 (in) "Enable input. Active high turns on power switch.", 5 GNDB (power) "Ground for IN3 and IN4 switch and circuitry", 6 IN3 (power) "N-channel MOSFET drain", 7 IN4 (power) "N-channel MOSFET drain", 8 EN3 (in) "Enable input. Active high turns on power switch.", 9 EN4 (in) "Enable input. Active high turns on power switch.", 10 OUT4 (power) "Power-switch output", 11 OUT3 (power) "Power-switch output", 12 ~{OCB} (oc) "Overcurrent indicator for switch 3 and switch 4. Active low open drain output", 13 EN2 (in) "Enable input. Active high turns on power switch.", 14 OUT2 (power) "Power-switch output", 15 OUT1 (power) "Power-switch output", 16 ~{OCA} (oc) "Overcurrent indicator for switch 1 and switch 2. Active-low open drain output."

## TPS2085DRG4
designator U?
0.7 A, 2.7 to 5.5 V Quad (4 Input / 4 Output) High-Side MOSFET Switch IC, Fault Reporting, 4 Act-Hi En, 80 mOhms rDS(On), 0 to 85 degC, 16-pin SOIC (D), Green (RoHS & no Sb/Br); Manufacturer: Texas Instruments; PartNumber: TPS2085DRG4; Adjustable Current Limit(Min)(A): 0.7; Enable/Shutdown: 4H; Iq(Typ)(uA): 85; Number of FETs: 4; Over Current Reporting: TRUE; rDS(on) per FET(Typ)(mOhms): 80; SubFamily: Current Limited Switch; Vin(Max)(V): 5.5; Vin(Min)(V): 2.7; DatasheetVersion: SLVS202B; PackageVersion: revM, Jun-2011; PackageReference: D16; PackageDescription: 16-Pin Plastic Small Outline Integrated Circuit, 9.9 x 3.9 mm, Pitch 1.27 mm Pitch; Supplier 1: Digi-Key; Supplier Part Number 1: TPS2085DRG4-ND; Supplier 2: Newark; Supplier Part Number 2: 33K7550; Supplier 3: Mouser; Supplier Part Number 3: 595-TPS2085DRG4; Eco-Plan: Green (RoHS & no Sb/Br); Over Temp Reporting: TRUE; Quad 4-Input, 4-Output: TRUE; Mounting Technology: Surface Mount; Code_JEDEC: MS-012AC; ComponentLink1Description: Datasheet; ComponentLink1URL: http://www.ti.com/general/docs/lit/getliterature.tsp?genericPartNumber=TPS2085&fileType=pdf
footprint D16_N (SOIC, 16-Leads, Body 9.9x3.9mm, Pitch 1.27mm, IPC Medium Density)
footprint D16_L (SOIC, 16-Leads, Body 9.9x3.9mm, Pitch 1.27mm, IPC High Density)
footprint D16_M (SOIC, 16-Leads, Body 9.9x3.9mm, Pitch 1.27mm, IPC Low Density)
pins: 1 GNDA (power) "Ground for IN1 and IN2 switch and circuitry", 2 IN1 (power) "N-channel MOSFET drain", 3 IN2 (power) "N-channel MOSFET drain", 4 EN1 (in) "Enable input. Active high turns on power switch.", 5 GNDB (power) "Ground for IN3 and IN4 switch and circuitry", 6 IN3 (power) "N-channel MOSFET drain", 7 IN4 (power) "N-channel MOSFET drain", 8 EN3 (in) "Enable input. Active high turns on power switch.", 9 EN4 (in) "Enable input. Active high turns on power switch.", 10 OUT4 (power) "Power-switch output", 11 OUT3 (power) "Power-switch output", 12 ~{OCB} (oc) "Overcurrent indicator for switch 3 and switch 4. Active low open drain output", 13 EN2 (in) "Enable input. Active high turns on power switch.", 14 OUT2 (power) "Power-switch output", 15 OUT1 (power) "Power-switch output", 16 ~{OCA} (oc) "Overcurrent indicator for switch 1 and switch 2. Active-low open drain output."

## TPS2086D
designator U?
0.7 A, 2.7 to 5.5 V Quad (4 In / 4 Out) High-Side MOSFET Switch IC, Fault Report, 2 Act-Hi, 2 Act-Lo En, 80 mOhms rDS(On), 0 to 85 degC, 16-pin SOIC (D), Green (RoHS & no Sb/Br); Manufacturer: Texas Instruments; PartNumber: TPS2086D; Adjustable Current Limit(Min)(A): 0.7; Enable/Shutdown: 2L, 2H; Iq(Typ)(uA): 85; Number of FETs: 4; Over Current Reporting: TRUE; rDS(on) per FET(Typ)(mOhms): 80; SubFamily: Current Limited Switch; Vin(Max)(V): 5.5; Vin(Min)(V): 2.7; DatasheetVersion: SLVS202B; PackageVersion: revM, Jun-2011; PackageReference: D16; PackageDescription: 16-Pin Plastic Small Outline Integrated Circuit, 9.9 x 3.9 mm, Pitch 1.27 mm Pitch; Supplier 1: Digi-Key; Supplier Part Number 1: 296-3435-5-ND; Supplier 2: Farnell; Supplier Part Number 2: 1755542; Supplier 3: Newark; Supplier Part Number 3: 34R9171; Supplier 4: Newark; Supplier Part Number 4: 77C0049; Supplier 5: Mouser; Supplier Part Number 5: 595-TPS2086D; Eco-Plan: Green (RoHS & no Sb/Br); Over Temp Reporting: TRUE; Quad 4-Input, 4-Output: TRUE; Mounting Technology: Surface Mount; Code_JEDEC: MS-012AC; ComponentLink1Description: Datasheet; ComponentLink1URL: http://www.ti.com/general/docs/lit/getliterature.tsp?genericPartNumber=TPS2086&fileType=pdf
footprint D16_N (SOIC, 16-Leads, Body 9.9x3.9mm, Pitch 1.27mm, IPC Medium Density)
footprint D16_L (SOIC, 16-Leads, Body 9.9x3.9mm, Pitch 1.27mm, IPC High Density)
footprint D16_M (SOIC, 16-Leads, Body 9.9x3.9mm, Pitch 1.27mm, IPC Low Density)
pins: 1 GNDA (power) "Ground for IN1 and IN2 switch and circuitry", 2 IN1 (power) "N-channel MOSFET drain", 3 IN2 (power) "N-channel MOSFET drain", 4 EN1 (in) "Enable input. Active high turns on power switch.", 5 GNDB (power) "Ground for IN3 and IN4 switch and circuitry", 6 IN3 (power) "N-channel MOSFET drain", 7 IN4 (power) "N-channel MOSFET drain", 8 EN3 (in) "Enable input. Active high turns on power switch.", 9 ~{EN4} (in) "Enable input. Active low turns on power switch.", 10 OUT4 (power) "Power-switch output", 11 OUT3 (power) "Power-switch output", 12 ~{OCB} (oc) "Overcurrent indicator for switch 3 and switch 4. Active low open drain output", 13 ~{EN2} (in) "Enable input. Active low turns on power switch.", 14 OUT2 (power) "Power-switch output", 15 OUT1 (power) "Power-switch output", 16 ~{OCA} (oc) "Overcurrent indicator for switch 1 and switch 2. Active-low open drain output."

## TPS2086DG4
designator U?
0.7 A, 2.7 to 5.5 V Quad (4 In / 4 Out) High-Side MOSFET Switch IC, Fault Report, 2 Act-Hi, 80 mOhms rDS(On), 0 to 85 degC, 16-pin SOIC (D), Green (RoHS & no Sb/Br); Manufacturer: Texas Instruments; PartNumber: TPS2086DG4; Adjustable Current Limit(Min)(A): 0.7; Enable/Shutdown: 2L, 2H; Iq(Typ)(uA): 85; Number of FETs: 4; Over Current Reporting: TRUE; rDS(on) per FET(Typ)(mOhms): 80; SubFamily: Current Limited Switch; Vin(Max)(V): 5.5; Vin(Min)(V): 2.7; DatasheetVersion: SLVS202B; PackageVersion: revM, Jun-2011; PackageReference: D16; PackageDescription: 16-Pin Plastic Small Outline Integrated Circuit, 9.9 x 3.9 mm, Pitch 1.27 mm Pitch; Supplier 1: Digi-Key; Supplier Part Number 1: TPS2086DG4-ND; Supplier 2: Newark; Supplier Part Number 2: 02M4302; Supplier 3: Mouser; Supplier Part Number 3: 595-TPS2086DG4; Eco-Plan: Green (RoHS & no Sb/Br); Over Temp Reporting: TRUE; Quad 4-Input, 4-Output: TRUE; Mounting Technology: Surface Mount; Code_JEDEC: MS-012AC; ComponentLink1Description: Datasheet; ComponentLink1URL: http://www.ti.com/general/docs/lit/getliterature.tsp?genericPartNumber=TPS2086&fileType=pdf
footprint D16_N (SOIC, 16-Leads, Body 9.9x3.9mm, Pitch 1.27mm, IPC Medium Density)
footprint D16_L (SOIC, 16-Leads, Body 9.9x3.9mm, Pitch 1.27mm, IPC High Density)
footprint D16_M (SOIC, 16-Leads, Body 9.9x3.9mm, Pitch 1.27mm, IPC Low Density)
pins: 1 GNDA (power) "Ground for IN1 and IN2 switch and circuitry", 2 IN1 (power) "N-channel MOSFET drain", 3 IN2 (power) "N-channel MOSFET drain", 4 EN1 (in) "Enable input. Active high turns on power switch.", 5 GNDB (power) "Ground for IN3 and IN4 switch and circuitry", 6 IN3 (power) "N-channel MOSFET drain", 7 IN4 (power) "N-channel MOSFET drain", 8 EN3 (in) "Enable input. Active high turns on power switch.", 9 ~{EN4} (in) "Enable input. Active low turns on power switch.", 10 OUT4 (power) "Power-switch output", 11 OUT3 (power) "Power-switch output", 12 ~{OCB} (oc) "Overcurrent indicator for switch 3 and switch 4. Active low open drain output", 13 ~{EN2} (in) "Enable input. Active low turns on power switch.", 14 OUT2 (power) "Power-switch output", 15 OUT1 (power) "Power-switch output", 16 ~{OCA} (oc) "Overcurrent indicator for switch 1 and switch 2. Active-low open drain output."

## TPS2087D
designator U?
0.7 A, 2.7 to 5.5 V Quad (4 Input / 4 Output) High-Side MOSFET Switch IC, Fault Reporting, 4 Act-Low En, 80 mOhms rDS(On), 0 to 85 degC, 16-pin SOIC (D), Green (RoHS & no Sb/Br); Manufacturer: Texas Instruments; PartNumber: TPS2087D; Adjustable Current Limit(Min)(A): 0.7; Enable/Shutdown: 4L; Iq(Typ)(uA): 85; Number of FETs: 4; Over Current Reporting: TRUE; rDS(on) per FET(Typ)(mOhms): 80; SubFamily: Current Limited Switch; Vin(Max)(V): 5.5; Vin(Min)(V): 2.7; DatasheetVersion: SLVS202B; PackageVersion: revM, Jun-2011; PackageReference: D16; PackageDescription: 16-Pin Plastic Small Outline Integrated Circuit, 9.9 x 3.9 mm, Pitch 1.27 mm Pitch; Supplier 1: Digi-Key; Supplier Part Number 1: 296-3436-5-ND; Supplier 2: Newark; Supplier Part Number 2: 77C0051; Supplier 3: Mouser; Supplier Part Number 3: 595-TPS2087D; Eco-Plan: Green (RoHS & no Sb/Br); Over Temp Reporting: TRUE; Quad 4-Input, 4-Output: TRUE; Mounting Technology: Surface Mount; Code_JEDEC: MS-012AC; ComponentLink1Description: Datasheet; ComponentLink1URL: http://www.ti.com/general/docs/lit/getliterature.tsp?genericPartNumber=TPS2087&fileType=pdf
footprint D16_N (SOIC, 16-Leads, Body 9.9x3.9mm, Pitch 1.27mm, IPC Medium Density)
footprint D16_L (SOIC, 16-Leads, Body 9.9x3.9mm, Pitch 1.27mm, IPC High Density)
footprint D16_M (SOIC, 16-Leads, Body 9.9x3.9mm, Pitch 1.27mm, IPC Low Density)
pins: 1 GNDA (power) "Ground for IN1 and IN2 switch and circuitry", 2 IN1 (power) "N-channel MOSFET drain", 3 IN2 (power) "N-channel MOSFET drain", 4 ~{EN1} (in) "Enable input. Active low turns on power switch.", 5 GNDB (power) "Ground for IN3 and IN4 switch and circuitry", 6 IN3 (power) "N-channel MOSFET drain", 7 IN4 (power) "N-channel MOSFET drain", 8 ~{EN3} (in) "Enable input. Active low turns on power switch.", 9 ~{EN4} (in) "Enable input. Active low turns on power switch.", 10 OUT4 (power) "Power-switch output", 11 OUT3 (power) "Power-switch output", 12 ~{OCB} (oc) "Overcurrent indicator for switch 3 and switch 4. Active low open drain output", 13 ~{EN2} (in) "Enable input. Active low turns on power switch.", 14 OUT2 (power) "Power-switch output", 15 OUT1 (power) "Power-switch output", 16 ~{OCA} (oc) "Overcurrent indicator for switch 1 and switch 2. Active-low open drain output."

## TPS2087DG4
designator U?
0.7 A, 2.7 to 5.5 V Quad (4 Input / 4 Output) High-Side MOSFET Switch IC, Fault Reporting, 4 Act-Low En, 80 mOhms rDS(On), 0 to 85 degC, 16-pin SOIC (D), Green (RoHS & no Sb/Br); Manufacturer: Texas Instruments; PartNumber: TPS2087DG4; Adjustable Current Limit(Min)(A): 0.7; Enable/Shutdown: 4L; Iq(Typ)(uA): 85; Number of FETs: 4; Over Current Reporting: TRUE; rDS(on) per FET(Typ)(mOhms): 80; SubFamily: Current Limited Switch; Vin(Max)(V): 5.5; Vin(Min)(V): 2.7; DatasheetVersion: SLVS202B; PackageVersion: revM, Jun-2011; PackageReference: D16; PackageDescription: 16-Pin Plastic Small Outline Integrated Circuit, 9.9 x 3.9 mm, Pitch 1.27 mm Pitch; Supplier 1: Digi-Key; Supplier Part Number 1: TPS2087DG4-ND; Supplier 2: Newark; Supplier Part Number 2: 37K4630; Supplier 3: Mouser; Supplier Part Number 3: 595-TPS2087DG4; Eco-Plan: Green (RoHS & no Sb/Br); Over Temp Reporting: TRUE; Quad 4-Input, 4-Output: TRUE; Mounting Technology: Surface Mount; Code_JEDEC: MS-012AC; ComponentLink1Description: Datasheet; ComponentLink1URL: http://www.ti.com/general/docs/lit/getliterature.tsp?genericPartNumber=TPS2087&fileType=pdf
footprint D16_N (SOIC, 16-Leads, Body 9.9x3.9mm, Pitch 1.27mm, IPC Medium Density)
footprint D16_L (SOIC, 16-Leads, Body 9.9x3.9mm, Pitch 1.27mm, IPC High Density)
footprint D16_M (SOIC, 16-Leads, Body 9.9x3.9mm, Pitch 1.27mm, IPC Low Density)
pins: 1 GNDA (power) "Ground for IN1 and IN2 switch and circuitry", 2 IN1 (power) "N-channel MOSFET drain", 3 IN2 (power) "N-channel MOSFET drain", 4 ~{EN1} (in) "Enable input. Active low turns on power switch.", 5 GNDB (power) "Ground for IN3 and IN4 switch and circuitry", 6 IN3 (power) "N-channel MOSFET drain", 7 IN4 (power) "N-channel MOSFET drain", 8 ~{EN3} (in) "Enable input. Active low turns on power switch.", 9 ~{EN4} (in) "Enable input. Active low turns on power switch.", 10 OUT4 (power) "Power-switch output", 11 OUT3 (power) "Power-switch output", 12 ~{OCB} (oc) "Overcurrent indicator for switch 3 and switch 4. Active low open drain output", 13 ~{EN2} (in) "Enable input. Active low turns on power switch.", 14 OUT2 (power) "Power-switch output", 15 OUT1 (power) "Power-switch output", 16 ~{OCA} (oc) "Overcurrent indicator for switch 1 and switch 2. Active-low open drain output."

## TPS2087DR
designator U?
0.7 A, 2.7 to 5.5 V Quad (4 Input / 4 Output) High-Side MOSFET Switch IC, Fault Reporting, 4 Act-Low En, 80 mOhms rDS(On), 0 to 85 degC, 16-pin SOIC (D), Green (RoHS & no Sb/Br); Manufacturer: Texas Instruments; PartNumber: TPS2087DR; Adjustable Current Limit(Min)(A): 0.7; Enable/Shutdown: 4L; Iq(Typ)(uA): 85; Number of FETs: 4; Over Current Reporting: TRUE; rDS(on) per FET(Typ)(mOhms): 80; SubFamily: Current Limited Switch; Vin(Max)(V): 5.5; Vin(Min)(V): 2.7; DatasheetVersion: SLVS202B; PackageVersion: revM, Jun-2011; PackageReference: D16; PackageDescription: 16-Pin Plastic Small Outline Integrated Circuit, 9.9 x 3.9 mm, Pitch 1.27 mm Pitch; Supplier 1: Digi-Key; Supplier Part Number 1: TPS2087DR-ND; Supplier 2: Newark; Supplier Part Number 2: 77C0052; Supplier 3: Mouser; Supplier Part Number 3: 595-TPS2087DR; Eco-Plan: Green (RoHS & no Sb/Br); Over Temp Reporting: TRUE; Quad 4-Input, 4-Output: TRUE; Mounting Technology: Surface Mount; Code_JEDEC: MS-012AC; ComponentLink1Description: Datasheet; ComponentLink1URL: http://www.ti.com/general/docs/lit/getliterature.tsp?genericPartNumber=TPS2087&fileType=pdf
footprint D16_N (SOIC, 16-Leads, Body 9.9x3.9mm, Pitch 1.27mm, IPC Medium Density)
footprint D16_L (SOIC, 16-Leads, Body 9.9x3.9mm, Pitch 1.27mm, IPC High Density)
footprint D16_M (SOIC, 16-Leads, Body 9.9x3.9mm, Pitch 1.27mm, IPC Low Density)
pins: 1 GNDA (power) "Ground for IN1 and IN2 switch and circuitry", 2 IN1 (power) "N-channel MOSFET drain", 3 IN2 (power) "N-channel MOSFET drain", 4 ~{EN1} (in) "Enable input. Active low turns on power switch.", 5 GNDB (power) "Ground for IN3 and IN4 switch and circuitry", 6 IN3 (power) "N-channel MOSFET drain", 7 IN4 (power) "N-channel MOSFET drain", 8 ~{EN3} (in) "Enable input. Active low turns on power switch.", 9 ~{EN4} (in) "Enable input. Active low turns on power switch.", 10 OUT4 (power) "Power-switch output", 11 OUT3 (power) "Power-switch output", 12 ~{OCB} (oc) "Overcurrent indicator for switch 3 and switch 4. Active low open drain output", 13 ~{EN2} (in) "Enable input. Active low turns on power switch.", 14 OUT2 (power) "Power-switch output", 15 OUT1 (power) "Power-switch output", 16 ~{OCA} (oc) "Overcurrent indicator for switch 1 and switch 2. Active-low open drain output."

## TPS2087DRG4
designator U?
0.7 A, 2.7 to 5.5 V Quad (4 Input / 4 Output) High-Side MOSFET Switch IC, Fault Reporting, 4 Act-Low En, 80 mOhms rDS(On), 0 to 85 degC, 16-pin SOIC (D), Green (RoHS & no Sb/Br); Manufacturer: Texas Instruments; PartNumber: TPS2087DRG4; Adjustable Current Limit(Min)(A): 0.7; Enable/Shutdown: 4L; Iq(Typ)(uA): 85; Number of FETs: 4; Over Current Reporting: TRUE; rDS(on) per FET(Typ)(mOhms): 80; SubFamily: Current Limited Switch; Vin(Max)(V): 5.5; Vin(Min)(V): 2.7; DatasheetVersion: SLVS202B; PackageVersion: revM, Jun-2011; PackageReference: D16; PackageDescription: 16-Pin Plastic Small Outline Integrated Circuit, 9.9 x 3.9 mm, Pitch 1.27 mm Pitch; Supplier 1: Digi-Key; Supplier Part Number 1: TPS2087DRG4-ND; Supplier 2: Newark; Supplier Part Number 2: 33K7552; Supplier 3: Mouser; Supplier Part Number 3: 595-TPS2087DRG4; Eco-Plan: Green (RoHS & no Sb/Br); Over Temp Reporting: TRUE; Quad 4-Input, 4-Output: TRUE; Mounting Technology: Surface Mount; Code_JEDEC: MS-012AC; ComponentLink1Description: Datasheet; ComponentLink1URL: http://www.ti.com/general/docs/lit/getliterature.tsp?genericPartNumber=TPS2087&fileType=pdf
footprint D16_N (SOIC, 16-Leads, Body 9.9x3.9mm, Pitch 1.27mm, IPC Medium Density)
footprint D16_L (SOIC, 16-Leads, Body 9.9x3.9mm, Pitch 1.27mm, IPC High Density)
footprint D16_M (SOIC, 16-Leads, Body 9.9x3.9mm, Pitch 1.27mm, IPC Low Density)
pins: 1 GNDA (power) "Ground for IN1 and IN2 switch and circuitry", 2 IN1 (power) "N-channel MOSFET drain", 3 IN2 (power) "N-channel MOSFET drain", 4 ~{EN1} (in) "Enable input. Active low turns on power switch.", 5 GNDB (power) "Ground for IN3 and IN4 switch and circuitry", 6 IN3 (power) "N-channel MOSFET drain", 7 IN4 (power) "N-channel MOSFET drain", 8 ~{EN3} (in) "Enable input. Active low turns on power switch.", 9 ~{EN4} (in) "Enable input. Active low turns on power switch.", 10 OUT4 (power) "Power-switch output", 11 OUT3 (power) "Power-switch output", 12 ~{OCB} (oc) "Overcurrent indicator for switch 3 and switch 4. Active low open drain output", 13 ~{EN2} (in) "Enable input. Active low turns on power switch.", 14 OUT2 (power) "Power-switch output", 15 OUT1 (power) "Power-switch output", 16 ~{OCA} (oc) "Overcurrent indicator for switch 1 and switch 2. Active-low open drain output."